# EAGLE library part LT4314 (library linear)
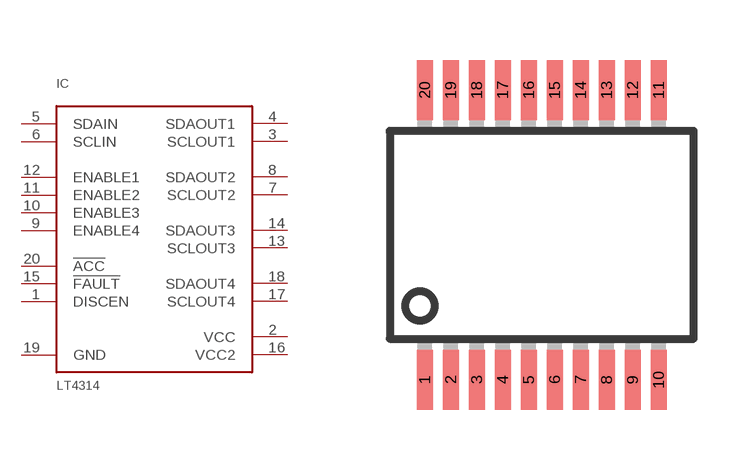
[diagram p0: symbol with the pads of SSOP20; footprint SSOP20]

Designator prefix IC

## LT4314GN  [SSOP20]
1  DISCEN
2  VCC
3  SCLOUT1
4  SDAOUT1
5  SDAIN
6  SCLIN
7  SCLOUT2
8  SDAOUT2
9  ENABLE4
10  ENABLE3
11  ENABLE2
12  ENABLE1
13  SCLOUT3
14  SDAOUT3
15  !FAULT
16  VCC2
17  SCLOUT4
18  SDAOUT4
19  GND
20  !ACC

## Footprint SSOP20 (pad centres in mm)
Shrink Small Outline Package package type SS
smd 0.4 x 1.5: 1 -2.925,-3.625; 2 -2.275,-3.625; 3 -1.625,-3.625; 4 -0.975,-3.625; 5 -0.325,-3.625; 6 0.325,-3.625; 7 0.975,-3.625; 8 1.625,-3.625; 9 2.275,-3.625; 10 2.925,-3.625; 11 2.925,3.625; 12 2.275,3.625; 13 1.625,3.625; 14 0.975,3.625; 15 0.325,3.625; 16 -0.325,3.625; 17 -0.975,3.625; 18 -1.625,3.625; 19 -2.275,3.625; 20 -2.925,3.625